# Altium footprint library KN2CLib.PcbLib: 180 footprints (part 8 of 12)
Each footprint in its own frame and in the unit in brackets; x right, y up, seen from the top. Pads: shape width x height; smd on the part's side, far side on the other; paste and mask are expansions set on the pad; w line width, h text height; cw(c..) or ccw(c..) is an arc to the next point about the centre after c.
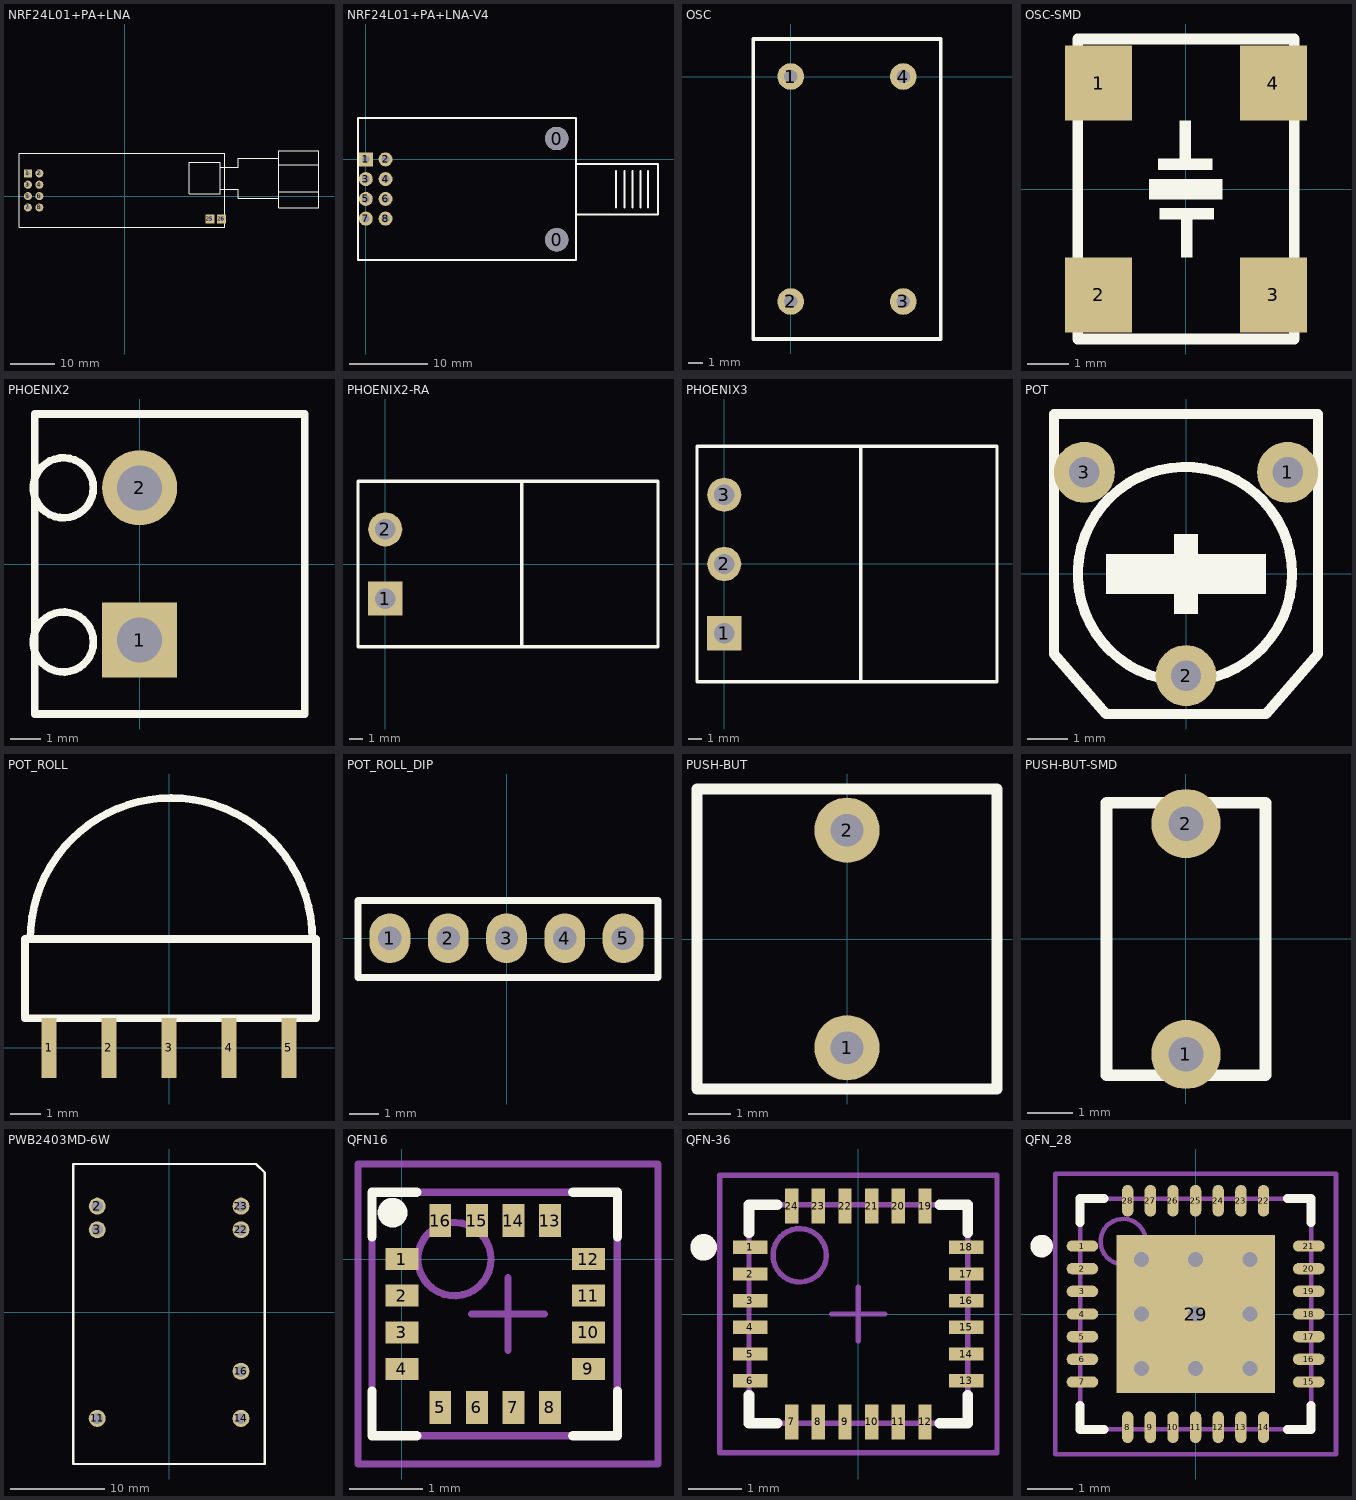
[diagram p7: the footprints below, top view; thin cyan lines are the x and y axes]

## NRF24L01+PA+LNA [mm]
pads (10):
  rect 1.8x1.8 hole 1: 1(-21.59,5.08)
  round 1.8 hole 1: 2(-19.05,5.08) 3(-21.59,2.54) 4(-19.05,2.54) 5(-21.59,0) 6(-19.05,0) 7(-21.59,-2.54) 8(-19.05,-2.54)
  rect 2x2 hole 1: 25(19.05,-5.08) 26(21.59,-5.08)
Top Overlay:
  lines w0.254: 21.361,1.524 25.375,1.524 ; 21.412,6.477 25.375,6.477 ; 25.407,6.488 25.407,8.488 34.407,8.488 34.407,-0.512 25.407,-0.512 ; 34.341,8.484 34.392,8.484 34.392,10.16 43.409,10.16 43.409,-2.616 34.417,-2.616 ; 34.392,-2.616 34.392,-0.152 ; 34.407,0.988 43.407,0.988 43.407,6.988 34.407,6.988 ; 25.407,-0.512 25.407,1.488 25.407,-0.512 ; -23.59,-6.98 -23.59,9.52 22.41,9.52 22.41,-6.98 -23.59,-6.98 ; 14.41,0.52 21.41,0.52 21.41,7.52 14.41,7.52 14.41,0.52

## NRF24L01+PA+LNA-V4 [mm]
pads (10):
  round 3 hole 3: 0(24.5,-10.327) 0(24.5,2.673)
  rect 1.8x1.8 hole 1: 1(0,0)
  round 1.8 hole 1: 2(2.54,0) 3(0,-2.54) 4(2.54,-2.54) 5(0,-5.08) 6(2.54,-5.08) 7(0,-7.62) 8(2.54,-7.62)
Top Overlay:
  lines w0.254: -1,-12.91 27,-12.91 27,5.29 -1,5.29 ; -1,-12.827 -1,5.19 ; 26.993,5.207 27,5.2 ; 32.15,-6.2 32.15,-1.475 ; 33.2,-6.2 33.2,-1.475 ; 34.225,-6.2 34.225,-1.475 ; 35.275,-6.2 35.275,-1.475 ; 36.25,-6.2 36.25,-1.475 ; 27.025,-7.075 27.025,-0.575 37.525,-0.575 37.525,-7.075 27.025,-7.075

## OSC [mm]
pads (4):
  round 1.8 hole 0.9: 1(0,0) 2(0,-15.24) 3(7.62,-15.24) 4(7.62,0)
Top Overlay:
  lines w0.254: -2.54,-17.78 -2.54,2.54 10.16,2.54 10.16,-17.78 -2.54,-17.78

## OSC-SMD [mm]
pads (4):
  rect 1.6x1.8 smd: 1(-2.1,2.54) 2(-2.1,-2.54) 3(2.1,-2.54) 4(2.1,2.54)
Top Overlay:
  rectangle: -0.152,0.465 0.123,1.64
  region: 0.635,0.457 0.635,0.732 -0.667,0.732 -0.667,0.457
  region: -0.635,-0.457 -0.635,-0.732 0.667,-0.732 0.667,-0.457
  region: 0.152,-0.465 -0.123,-0.465 -0.123,-1.64 0.152,-1.64
  region: 0.872,0.239 0.872,-0.243 -0.88,-0.243 -0.88,0.239
  lines w0.254: -2.6,-3.6 -2.6,3.6 2.6,3.6 2.6,-3.6 -2.6,-3.6
3D body: height 1.51, standoff 0, extent -1.949,2.368 -1.351,2.967
3D body: height 0.5, standoff 0, extent -2.6,-3.6 2.6,3.6
3D body: height 1.3, standoff 0, extent -2.362,-3.378 2.362,3.353

## PHOENIX2 [mm]
pads (2):
  rect 2.5x2.5 hole 1.5: 1(0,-2.54)
  round 2.5 hole 1.5: 2(0,2.54)
Top Overlay:
  circle w0.254: c-2.54,2.54 r1
  circle w0.254: c-2.54,-2.6 r1
  lines w0.254: -3.5,-5 -3.5,5 5.5,5 5.5,-5 -3.5,-5
3D body: height 8.6, standoff 0, extent -3.5,-5.013 5.475,4.975

## PHOENIX2-RA [mm]
pads (2):
  rect 2.5x2.5 hole 1.5: 1(0,-2.54)
  round 2.5 hole 1.5: 2(0,2.54)
Top Overlay:
  lines w0.254: 10,-6.08 10,6.08 ; -2,-6.08 20,-6.08 20,6.08 -2,6.08 -2,-6.08
3D body: height 8.6, standoff 0, extent -1.981,-6.071 10.008,6.096
3D body: height 15, standoff 0, extent 10.008,-6.045 19.964,6.096

## PHOENIX3 [mm]
pads (3):
  rect 2.5x2.5 hole 1.5: 1(0,-5.08)
  round 2.5 hole 1.5: 2(0,0) 3(0,5.08)
Top Overlay:
  lines w0.254: 10,-8.62 10,8.62 ; -2,-8.62 -2,8.62 20,8.62 20,-8.62 -2,-8.62
3D body: height 15, standoff 0, extent 10.008,-8.585 19.964,8.611
3D body: height 8.6, standoff 0, extent -1.981,-8.611 10.008,8.611

## POT [mil]
pads (3):
  round 60 hole 30: 1(100,100) 2(0,-100) 3(-100,100)
Top Overlay:
  circle w10: c-1,0 r105.42
  rectangle: -78.74,-19.68 78.74,19.68
  rectangle: -11.81,-39.37 11.81,39.37
  lines w10: -129.92,-78.74 -78.74,-137.8 78.74,-137.8 129.92,-78.74 129.92,157.48 -129.92,157.48 -129.92,-78.74
3D body: height 157.48, standoff 0, extent -134.84,-136.81 129.92,157.48

## POT_ROLL [mm]
pads (5):
  rect 0.5x2 smd: 1(-4,0) 2(-2,0) 3(0,0) 4(2,0) 5(4,0)
Top Overlay:
  lines w0.254: -4.623,3.632 cw(c0.078,3.632) 4.779,3.632 ; -4.8,0.991 4.9,0.991 4.9,3.632 -4.8,3.632 -4.8,0.991

## POT_ROLL_DIP [mm]
pads (5):
  oval 1.4x1.7 hole 0.8: 1(-4,0) 2(-2,0) 3(0,0) 4(2,0) 5(4,0)
Top Overlay:
  lines w0.254: -5.092,-1.346 -5.092,1.295 5.195,1.295 5.195,-1.346 -5.092,-1.346

## PUSH-BUT [mil]
pads (2):
  round 60 hole 30: 1(0,-100) 2(0,100)
Top Overlay:
  lines w10: -137.8,-137.8 -137.8,137.8 137.8,137.8 137.8,-137.8 -137.8,-137.8
3D body: height 157.48, standoff 0, extent -138.78,-138.78 138.78,138.78

## PUSH-BUT-SMD [mil]
pads (2):
  round 60 hole 30: 1(0,-100) 2(0,100)
Top Overlay:
  lines w10: -68.9,-118.11 -68.9,118.11 68.9,118.11 68.9,-118.11 -68.9,-118.11
3D body: height 157.48, standoff 0, extent -69,-118 68,117

## PWB2403MD-6W [mm]
pads (7):
  round 1.8 hole 1.2: 2(-7.62,11.25) 3(-7.62,8.75) 11(-7.62,-11.25) 14(7.62,-11.25) 16(7.62,-6.25) 22(7.62,8.75) 23(7.62,11.25)
Top Overlay:
  lines w0.254: -10.16,-16.08 -10.16,15.72 9.223,15.72 10.14,14.803 10.14,-16.08 -10.16,-16.08
3D body: height 4, standoff 0, extent -10.15,-15.975 10.1,15.625

## QFN16 [mm] "QFN, 16-Leads, Body 3.0x3.0mm (max), Pitch 0.50mm, IPC Medium Density"
height 0.9
pads (16):
  rect 0.45x0.3 smd: 1(0,0) 2(0,-0.5) 3(0,-1) 4(0,-1.5) 9(2.55,-1.5) 10(2.55,-1) 11(2.55,-0.5) 12(2.55,0)
  rect 0.3x0.45 smd: 5(0.525,-2.025) 6(1.025,-2.025) 7(1.525,-2.025) 8(2.025,-2.025) 13(2.025,0.525) 14(1.525,0.525) 15(1.025,0.525) 16(0.525,0.525)
Top Overlay:
  circle w0.203: c-0.127,0.635 r0.102
  lines w0.127: -0.406,-1.803 -0.406,-2.413 0.203,-2.413 ; -0.406,0.305 -0.406,0.914 0.203,0.914 ; 2.337,-2.413 2.946,-2.413 2.946,-1.803 ; 2.337,0.914 2.946,0.914 2.946,0.305
Mechanical 13:
  circle w0.1: c0.719,0 r0.5
  lines w0.1: -0.406,-2.413 2.946,-2.413 2.946,0.914 -0.406,0.914 -0.406,-2.413
Mechanical 15:
  lines w0.1: 0.951,-0.75 1.951,-0.75 ; 1.451,-1.25 1.451,-0.25 ; -0.599,-2.8 3.501,-2.8 3.501,1.3 -0.599,1.3 -0.599,-2.8
3D body: height 0.9, standoff 0.01, extent -0.178,-2.289 2.822,0.711

## QFN-36 [mm] "QFN, 24-Leads, Body 4.1x4.1mm (max), Pitch 0.50mm, IPC Medium Density"
height 0.95
pads (24):
  rect 0.65x0.25 smd: 1(-2.025,1.25) 2(-2.025,0.75) 3(-2.025,0.25) 4(-2.025,-0.25) 5(-2.025,-0.75) 6(-2.025,-1.25) 13(2.025,-1.25) 14(2.025,-0.75) 15(2.025,-0.25) 16(2.025,0.25) 17(2.025,0.75) 18(2.025,1.25)
  rect 0.25x0.65 smd: 7(-1.25,-2.025) 8(-0.75,-2.025) 9(-0.25,-2.025) 10(0.25,-2.025) 11(0.75,-2.025) 12(1.25,-2.025) 19(1.25,2.025) 20(0.75,2.025) 21(0.25,2.025) 22(-0.25,2.025) 23(-0.75,2.025) 24(-1.25,2.025)
Top Overlay:
  circle w0.25: c-2.9,1.25 r0.125
  lines w0.2: -2.05,-1.525 -2.05,-2.05 -1.525,-2.05 ; -2.05,1.525 -2.05,2.05 -1.525,2.05 ; 1.525,-2.05 2.05,-2.05 2.05,-1.525 ; 1.525,2.05 2.05,2.05 2.05,1.525
Mechanical 13:
  circle w0.1: c-1.1,1.1 r0.5
  lines w0.1: -2.05,-2.05 2.05,-2.05 2.05,2.05 -2.05,2.05 -2.05,-2.05
Mechanical 15:
  lines w0.1: -0.5,0 0.5,0 ; 0,-0.5 0,0.5 ; -2.6,-2.6 2.6,-2.6 2.6,2.6 -2.6,2.6 -2.6,-2.6
3D body: height 0.95, standoff 0.02, extent -2.05,-2.05 2.05,2.05

## QFN_28 [mm] "QFN, 28-Leads, Body 5.1x5.1mm (max), Pitch 0.50mm, IPC Medium Density"
height 0.8
pads (29):
  oval 0.7x0.25 smd: 1(-2.5,1.5) 2(-2.5,1) 3(-2.5,0.5) 4(-2.5,0) 5(-2.5,-0.5) 6(-2.5,-1) 7(-2.5,-1.5) 15(2.5,-1.5) 16(2.5,-1) 17(2.5,-0.5) 18(2.5,0) 19(2.5,0.5) 20(2.5,1) 21(2.5,1.5)
  oval 0.25x0.7 smd: 8(-1.5,-2.5) 9(-1,-2.5) 10(-0.5,-2.5) 11(0,-2.5) 12(0.5,-2.5) 13(1,-2.5) 14(1.5,-2.5) 22(1.5,2.5) 23(1,2.5) 24(0.5,2.5) 25(0,2.5) 26(-0.5,2.5) 27(-1,2.5) 28(-1.5,2.5)
  rect 3.5x3.5 smd: 29(0,0)
via -1.2,1.2 diameter 0.66 hole 0.33
via 0,1.2 diameter 0.66 hole 0.33
via 1.2,1.2 diameter 0.66 hole 0.33
via -1.2,0 diameter 0.66 hole 0.33
via 0,0 diameter 0.66 hole 0.33
via 1.2,0 diameter 0.66 hole 0.33
via -1.2,-1.2 diameter 0.66 hole 0.33
via 0,-1.2 diameter 0.66 hole 0.33
via 1.2,-1.2 diameter 0.66 hole 0.33
Top Overlay:
  circle w0.25: c-3.4,1.5 r0.125
  lines w0.2: -2.55,-2.025 -2.55,-2.55 -2.025,-2.55 ; -2.55,2.025 -2.55,2.55 -2.025,2.55 ; 2.025,-2.55 2.55,-2.55 2.55,-2.025 ; 2.025,2.55 2.55,2.55 2.55,2.025
Mechanical 13:
  circle w0.1: c-1.6,1.6 r0.5
  lines w0.1: -2.55,-2.55 -2.55,2.55 2.55,2.55 2.55,-2.55 -2.55,-2.55
Mechanical 15:
  lines w0.1: -0.5,0 0.5,0 ; 0,-0.5 0,0.5 ; -3.1,-3.1 -3.1,3.1 3.1,3.1 3.1,-3.1 -3.1,-3.1
3D body: height 0.8, standoff 0.02, extent -2.55,-2.55 2.55,2.55